# Altium schematic symbol library SCH - MCU - ATMEGA - MICROCHIP ATMEGA324PA-MCH DRQFN44.SchLib: 1 symbol
Pins are listed as number, name and electrical type; pins without a type are passive.

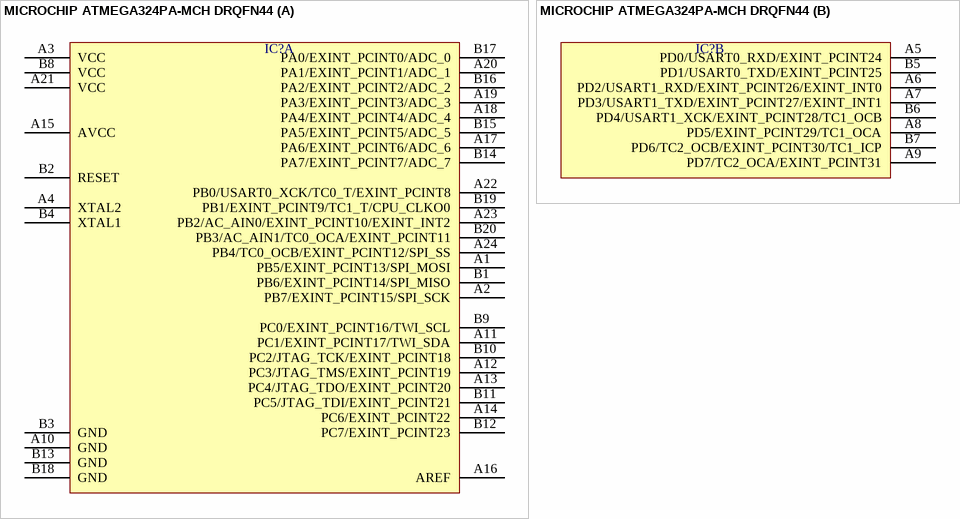
[diagram p0: symbol MICROCHIP ATMEGA324PA-MCH DRQFN44]

## MICROCHIP ATMEGA324PA-MCH DRQFN44
designator IC?  (value not drawn)
part A pins: A1 PB5/EXINT_PCINT13/SPI_MOSI, A2 PB7/EXINT_PCINT15/SPI_SCK, A3 VCC, A4 XTAL2, A10 GND, A11 PC1/EXINT_PCINT17/TWI_SDA, A12 PC3/JTAG_TMS/EXINT_PCINT19, A13 PC4/JTAG_TDO/EXINT_PCINT20, A14 PC6/EXINT_PCINT22, A15 AVCC, A16 AREF, A17 PA6/EXINT_PCINT6/ADC_6, A18 PA4/EXINT_PCINT4/ADC_4, A19 PA3/EXINT_PCINT3/ADC_3, A20 PA1/EXINT_PCINT1/ADC_1, A21 VCC, A22 PB0/USART0_XCK/TC0_T/EXINT_PCINT8, A23 PB2/AC_AIN0/EXINT_PCINT10/EXINT_INT2, A24 PB4/TC0_OCB/EXINT_PCINT12/SPI_SS, B1 PB6/EXINT_PCINT14/SPI_MISO, B2 RESET, B3 GND, B4 XTAL1, B8 VCC, B9 PC0/EXINT_PCINT16/TWI_SCL, B10 PC2/JTAG_TCK/EXINT_PCINT18, B11 PC5/JTAG_TDI/EXINT_PCINT21, B12 PC7/EXINT_PCINT23, B13 GND, B14 PA7/EXINT_PCINT7/ADC_7, B15 PA5/EXINT_PCINT5/ADC_5, B16 PA2/EXINT_PCINT2/ADC_2, B17 PA0/EXINT_PCINT0/ADC_0, B18 GND, B19 PB1/EXINT_PCINT9/TC1_T/CPU_CLKO0, B20 PB3/AC_AIN1/TC0_OCA/EXINT_PCINT11
part B pins: A5 PD0/USART0_RXD/EXINT_PCINT24, A6 PD2/USART1_RXD/EXINT_PCINT26/EXINT_INT0, A7 PD3/USART1_TXD/EXINT_PCINT27/EXINT_INT1, A8 PD5/EXINT_PCINT29/TC1_OCA, A9 PD7/TC2_OCA/EXINT_PCINT31, B5 PD1/USART0_TXD/EXINT_PCINT25, B6 PD4/USART1_XCK/EXINT_PCINT28/TC1_OCB, B7 PD6/TC2_OCB/EXINT_PCINT30/TC1_ICP